# EAGLE library part PIC18F67J60 (library Microchip)
64-Pin, High Performance, Microcontroller with Ethernet
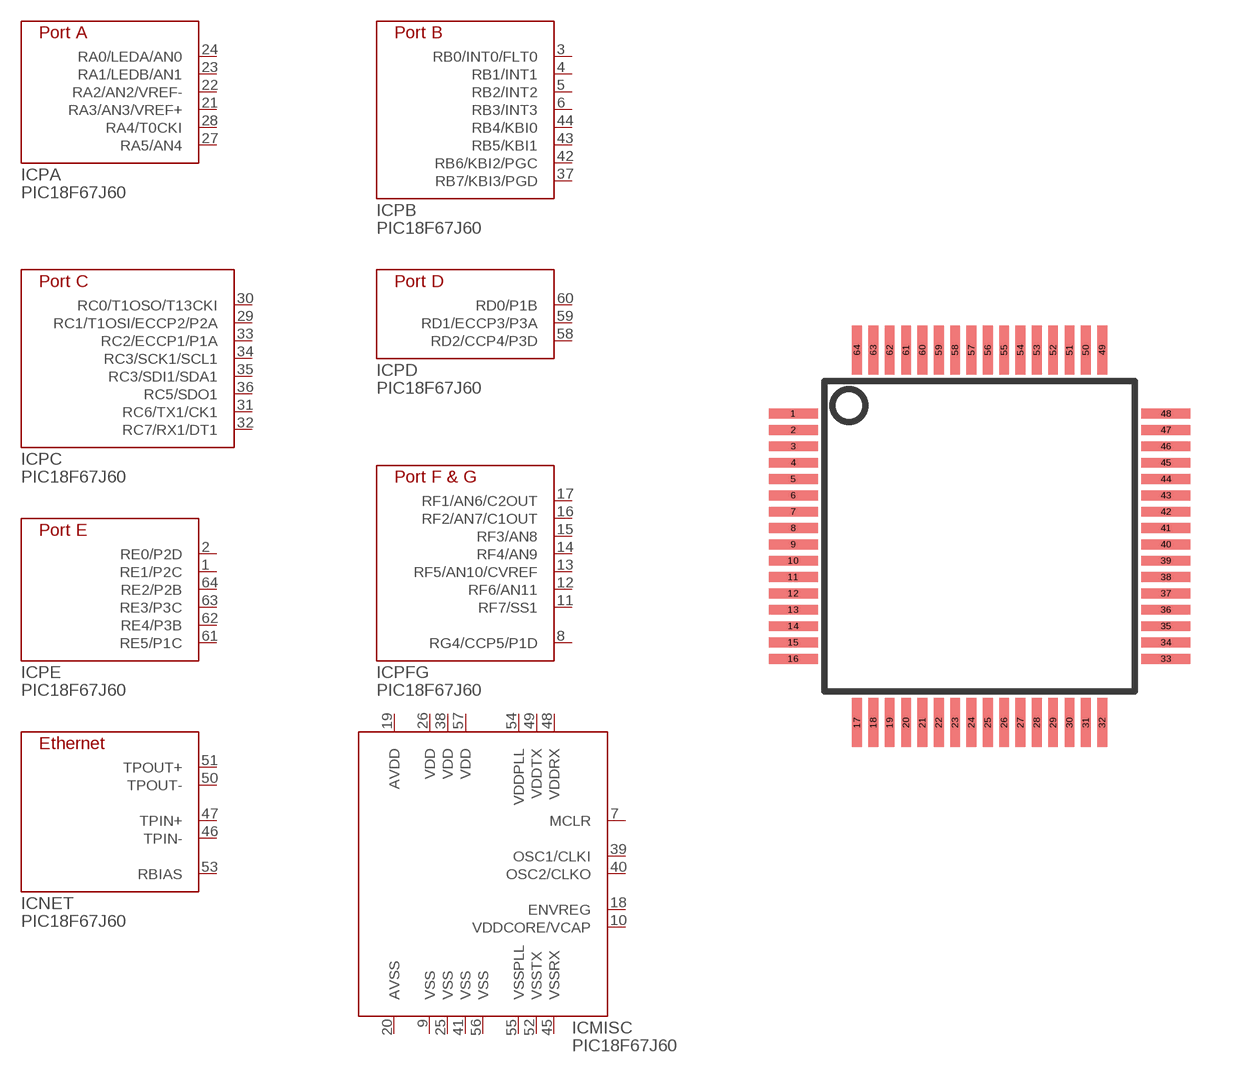
[diagram p20: symbol with the pads of TQ64-PT; footprint TQ64-PT]

Designator prefix IC; gates PA=PIC18F67J60-PA PB=PIC18F67J60-PB PC=PIC18F67J60-PC PD=PIC18F67J60-PD PE=PIC18F67J60-PE PFG=PIC18F67J60-PF NET=PIC18F67J60-NET MISC=PIC18F67J60-MISC

## PIC18F67J60-PT  [TQ64-PT]
1  PE:RE1/P2C
2  PE:RE0/P2D
3  PB:RB0/INT0/FLT0
4  PB:RB1/INT1
5  PB:RB2/INT2
6  PB:RB3/INT3
7  MISC:MCLR
8  PFG:RG4/CCP5/P1D
9  MISC:VSS
10  MISC:VDDCORE/VCAP
11  PFG:RF7/SS1
12  PFG:RF6/AN11
13  PFG:RF5/AN10/CVREF
14  PFG:RF4/AN9
15  PFG:RF3/AN8
16  PFG:RF2/AN7/C1OUT
17  PFG:RF1/AN6/C2OUT
18  MISC:ENVREG
19  MISC:AVDD
20  MISC:AVSS
21  PA:RA3/AN3/VREF+
22  PA:RA2/AN2/VREF-
23  PA:RA1/LEDB/AN1
24  PA:RA0/LEDA/AN0
25  MISC:VSS
26  MISC:VDD
27  PA:RA5/AN4
28  PA:RA4/T0CKI
29  PC:RC1/T1OSI/ECCP2/P2A
30  PC:RC0/T1OSO/T13CKI
31  PC:RC6/TX1/CK1
32  PC:RC7/RX1/DT1
33  PC:RC2/ECCP1/P1A
34  PC:RC3/SCK1/SCL1
35  PC:RC3/SDI1/SDA1
36  PC:RC5/SDO1
37  PB:RB7/KBI3/PGD
38  MISC:VDD
39  MISC:OSC1/CLKI
40  MISC:OSC2/CLKO
41  MISC:VSS
42  PB:RB6/KBI2/PGC
43  PB:RB5/KBI1
44  PB:RB4/KBI0
45  MISC:VSSRX
46  NET:TPIN-
47  NET:TPIN+
48  MISC:VDDRX
49  MISC:VDDTX
50  NET:TPOUT-
51  NET:TPOUT+
52  MISC:VSSTX
53  NET:RBIAS
54  MISC:VDDPLL
55  MISC:VSSPLL
56  MISC:VSS
57  MISC:VDD
58  PD:RD2/CCP4/P3D
59  PD:RD1/ECCP3/P3A
60  PD:RD0/P1B
61  PE:RE5/P1C
62  PE:RE4/P3B
63  PE:RE3/P3C
64  PE:RE2/P2B

## Footprint TQ64-PT (pad centres in mm)
TQFP 64 pin, 0.5mm pitch, 16x16, Microchip PT package
smd 1.5 x 0.3: 1 -5.7,3.75; 2 -5.7,3.25; 3 -5.7,2.75; 4 -5.7,2.25; 5 -5.7,1.75; 6 -5.7,1.25; 7 -5.7,0.75; 8 -5.7,0.25; 9 -5.7,-0.25; 10 -5.7,-0.75; 11 -5.7,-1.25; 12 -5.7,-1.75; 13 -5.7,-2.25; 14 -5.7,-2.75; 15 -5.7,-3.25; 16 -5.7,-3.75; 33 5.7,-3.75; 34 5.7,-3.25; 35 5.7,-2.75; 36 5.7,-2.25; 37 5.7,-1.75; 38 5.7,-1.25; 39 5.7,-0.75; 40 5.7,-0.25; 41 5.7,0.25; 42 5.7,0.75; 43 5.7,1.25; 44 5.7,1.75; 45 5.7,2.25; 46 5.7,2.75; 47 5.7,3.25; 48 5.7,3.75
smd 0.3 x 1.5: 17 -3.75,-5.7; 18 -3.25,-5.7; 19 -2.75,-5.7; 20 -2.25,-5.7; 21 -1.75,-5.7; 22 -1.25,-5.7; 23 -0.75,-5.7; 24 -0.25,-5.7; 25 0.25,-5.7; 26 0.75,-5.7; 27 1.25,-5.7; 28 1.75,-5.7; 29 2.25,-5.7; 30 2.75,-5.7; 31 3.25,-5.7; 32 3.75,-5.7; 49 3.75,5.7; 50 3.25,5.7; 51 2.75,5.7; 52 2.25,5.7; 53 1.75,5.7; 54 1.25,5.7; 55 0.75,5.7; 56 0.25,5.7; 57 -0.25,5.7; 58 -0.75,5.7; 59 -1.25,5.7; 60 -1.75,5.7; 61 -2.25,5.7; 62 -2.75,5.7; 63 -3.25,5.7; 64 -3.75,5.7